# EAGLE library part 13P-MIDI (library CYCFI_Con)
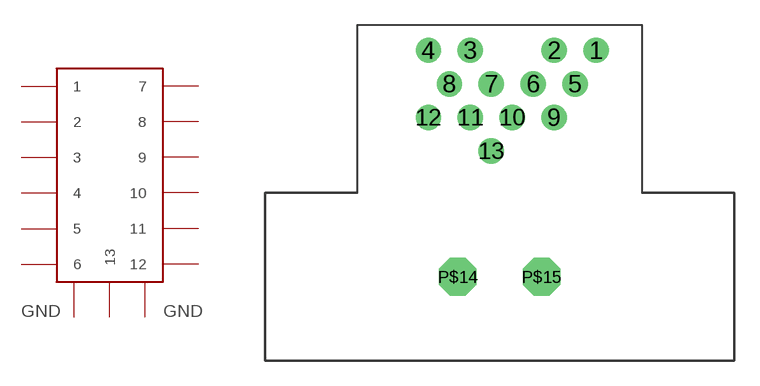
[diagram p3: symbol with the pads of 13P-MIDI; footprint 13P-MIDI]

Designator prefix -

## 13P-MIDI  [13P-MIDI]
1  1
2  2
3  3
4  4
5  5
6  6
7  7
8  8
9  9
10  10
11  11
12  12
13  13
P$14  14
P$15  15

## Footprint 13P-MIDI (pad centres in mm)
drill 1: 1 5.75,13.5; 2 3.25,13.5; 3 -1.75,13.5; 4 -4.25,13.5; 5 4.5,11.5; 6 2,11.5; 7 -0.5,11.5; 8 -3,11.5; 9 3.25,9.5; 10 0.75,9.5; 11 -1.75,9.5; 12 -4.25,9.5; 13 -0.5,7.5
drill 1.5 octagon: P$14 -2.5,0; P$15 2.5,0